# Altium schematic symbol library ctdsp.SchLib: 19 symbols
Pins are listed as number, name and electrical type; pins without a type are passive.

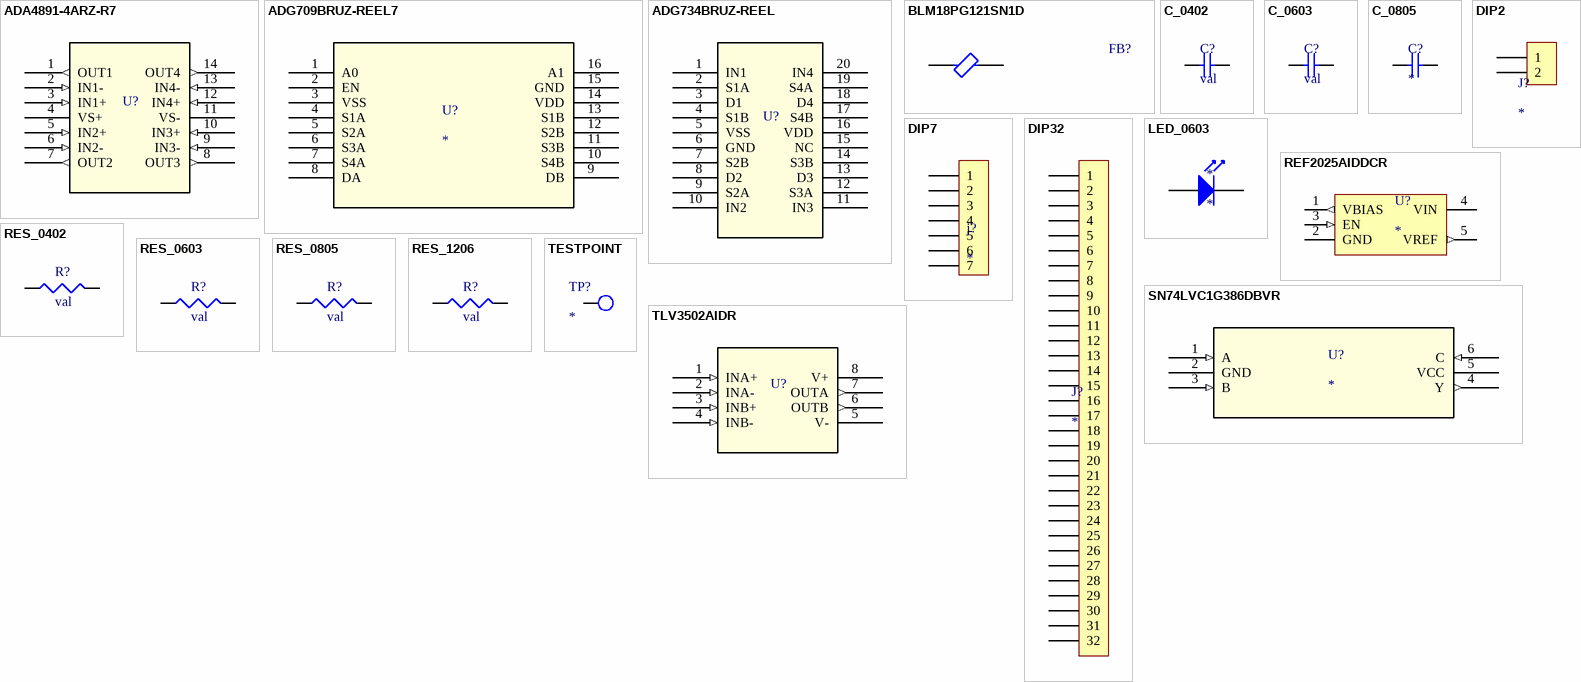
[diagram p0: symbols ADA4891-4ARZ-R7 to TLV3502AIDR]

## ADA4891-4ARZ-R7
designator U?  (value not drawn)
Quad Rail-to-Rail Op-Amp, 240 MHz, 170 V/µs, SOT-23-5; LCSC Part #: C654290
footprint ADA4891-4ARZ-R7
pins: 1 OUT1 (out), 2 IN1- (in), 3 IN1+ (in), 4 VS+ (power), 5 IN2+ (in), 6 IN2- (in), 7 OUT2 (out), 8 OUT3 (out), 9 IN3- (in), 10 IN3+ (in), 11 VS- (power), 12 IN4+ (in), 13 IN4- (in), 14 OUT4 (out)

## ADG709BRUZ-REEL7
designator U?
CMOS Low Voltage, 3 Î© 4-Channel Multiplexer; LCSC Part #: C206785
footprint ADG709BRUZ-REEL7
pins: 1 A0, 2 EN, 3 VSS (power), 4 S1A, 5 S2A, 6 S3A, 7 S4A, 8 DA, 9 DB, 10 S4B, 11 S3B, 12 S2B, 13 S1B, 14 VDD (power), 15 GND, 16 A1

## ADG734BRUZ-REEL
designator U?  (value not drawn)
LCSC Part #: C579105
footprint ADG734BRUZ-REEL
pins: 1 IN1, 2 S1A, 3 D1, 4 S1B, 5 VSS (power), 6 GND, 7 S2B, 8 D2, 9 S2A, 10 IN2, 11 IN3, 12 S3A, 13 D3, 14 S3B, 15 NC, 16 VDD (power), 17 S4B, 18 D4, 19 S4A, 20 IN4

## BLM18PG121SN1D
designator FB?
-55℃~+125℃ 1 120Ω@100MHz 2A 50mΩ ±25% 0603 Ferrite Beads ROHS; LCSC Part #: C14709
footprint BLM18PG121SN1D
pins: 1, 2

## C_0402
designator C?, comment val
footprint C_0402
pins: 1, 2

## C_0603
designator C?, comment val
footprint C_0603
pins: 1, 2

## C_0805
designator C?
footprint C_0805
pins: 1, 2

## DIP2
designator J?
footprint Dip2
pins: 1, 2

## DIP7
designator j?
footprint DIP7
pins: 1, 2, 3, 4, 5, 6, 7

## DIP32
designator J?
footprint DIP32
pins: 1, 2, 3, 4, 5, 6, 7, 8, 9, 10, 11, 12, 13, 14, 15, 16, 17, 18, 19, 20, 21, 22, 23, 24, 25, 26, 27, 28, 29, 30, 31, 32

## LED_0603
designator *
footprint LED_6003
pins: 1 A, 2 K

## REF2025AIDDCR
designator U?
LCSC Part #: C962078
footprint REF2025AIDDCR
pins: 1 VBIAS (out), 2 GND (power), 3 EN (in), 4 VIN (power), 5 VREF (out)

## RES_0402
designator R?, comment val
footprint RES_0402
pins: 1, 2

## RES_0603
designator R?, comment val
footprint RES_0603
pins: 1, 2

## RES_0805
designator R?, comment val
pins: 1, 2

## RES_1206
designator R?, comment val
footprint RES_1206
pins: 1, 2

## SN74LVC1G386DBVR
designator U?
Single 3-input, 1.65-V to 5.5-V XOR (exclusive OR) gate 6-SOT-23 -40 to 125; LCSC Part #: C2838503
footprint SN74LVC1G386DBVR
pins: 1 A (in), 2 GND (power), 3 B (in), 4 Y (out), 5 VCC (power), 6 C (in)

## TESTPOINT
designator TP?
footprint TESTPOINT
pins: 1

## TLV3502AIDR
designator U?  (value not drawn)
Dual 4.5ns Push-pull Rail-to-Rail Input, Rail-to-Rail Output TTL Comparators; LCSC Part #: C131165
footprint TLV3502AIDR
pins: 1 INA+ (in), 2 INA- (in), 3 INB+ (in), 4 INB- (in), 5 V- (power), 6 OUTB (out), 7 OUTA (out), 8 V+ (power)